# Altium schematic symbol library USB-RS485-unit.SCHLIB: 10 symbols
Pins are listed as number, name and electrical type; pins without a type are passive.

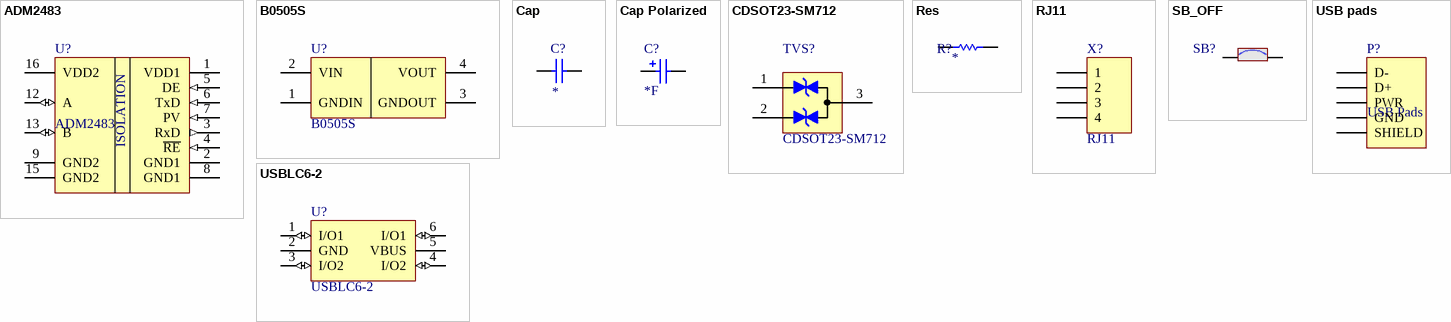
[diagram p0: symbols ADM2483 to USBLC6-2]

## ADM2483
designator U?
Half-Duplex, Isolated RS-485 Transceiver; Manufacturer_Part_Number: ADM2483BRWZ-REEL; Manufacturer: Analog Devices; Order_Code_ChipIDip: 9000375326; ComponentLink1Description: Datasheet; Part_Type: Transceiver; ComponentLink1URL: https://www.analog.com/media/en/technical-documentation/data-sheets/adm2483.pdf; Package: SOIC-W; Value: ADM2483
footprint SO-16_L (16-Pin Small Outline Integrated Circuit 1.27 mm Pitch, IPC High Density)
footprint SO-16_M (16-Pin Small Outline Integrated Circuit 1.27 mm Pitch, IPC Low Density)
footprint SO-16_N (16-Pin Small Outline Integrated Circuit 1.27 mm Pitch, IPC Medium Density)
footprint SOL-16 Wide (16-Pin Small Outline Integrated Circuit 1.27 mm Pitch, Wide Body)
pins: 1 VDD1 (power), 2 GND1 (power), 3 RxD (out), 4 ~{RE} (in), 5 DE (in), 6 TxD (in), 7 PV (in), 8 GND1 (power), 9 GND2 (power), 12 A (io), 13 B (io), 15 GND2 (power), 16 VDD2 (power)
text: ISOLATION

## B0505S
designator U?
Isolated DC-DC Converter; Manufacturer_Part_Number: B0505S-1WR2; Manufacturer: Mornsun Power; Order_Code_ChipIDip: 9000304516; ComponentLink1Description: Datasheet; Part_Type: DC-DC; ComponentLink1URL: https://static.chipdip.ru/lib/480/DOC001480972.pdf; Package: SIP; Value: B0505S
footprint B0505S - horizontal (Isolated DC-DC)
pins: 1 GNDIN (power), 2 VIN (power), 3 GNDOUT (power), 4 VOUT (power)

## Cap
designator C?
Capacitor ceramic SMT; Part_Type: Chip Capacitor; Value: *
footprint C1206 (Chip Capacitor, Body 3.2x1.6mm, IPC High Density)
footprint 0402 (Chip Capacitor, Body 1.0x0.5mm, IPC High Density)
footprint C2512 (Chip Capacitor, Body 2.54x1.27mm, IPC High Density)
footprint 1608[0603] (Chip Capacitor, Body 1.6x0.8mm, IPC High Density)
footprint C1210 (Chip Capacitor, Body 3.2x2.5mm, IPC High Density)
simulation model CAP (Semiconductor Capacitor)
signal-integrity model Cap Semi
pins: 1, 2

## Cap Polarized
designator C?, comment *F
Polarized Capacitor SMT; Part_Type: Polarized Capacitor; Value: *F
simulation model CAP (Capacitor)
signal-integrity model Cap Pol
footprint UD-6,3X5,8_NICHICON
footprint TC3216-1206 (Capacitor, SM Tantalum; Body 3.2 x 1.6 mm (LxW typ))
pins: 1, 2
1 alternate drawing of the same symbol

## CDSOT23-SM712
designator TVS?
Surface Mount TVS Diode; Manufacturer: Bourns; Order_Code_ChipIDip: 9000168919; Manufacturer_Part_Number: CDSOT23-SM712; ComponentLink1Description: Datasheet; Part_Type: TVS; ComponentLink1URL: https://www.bourns.com/pdfs/CDSOT23-SM712.pdf; Package: SOT-23; Value: CDSOT23-SM712
footprint SOT-23B_N (SOT23, 3-Leads, Body 2.9x1.3mm, Pitch 0.95mm, Lead Span 2.4mm, IPC Medium Density)
pins: 1, 2, 3

## Res
designator R?
Rectangular Thick Film Chip Resistor; Part_Type: Resistor; ComponentLink1Description: Manufacturer Link; ComponentLink1URL: http://www.panasonic.com/industrial/components/resistive_products.htm; ComponentLink2Description: Datasheet; ComponentLink2URL: http://www.panasonic.com/industrial/components/pdf/AOA0000CE8.pdf; Value: *
simulation model RESISTOR (Resistor)
signal-integrity model Res
footprint RES-0805 (Chip Resistor; Body 2 x 1.3 mm (LxW typ))
footprint RES-1206 (Chip Resistor; Body  x mm (LxW typ))
pins: 1, 2

## RJ11
designator X?
RJ-11 Connector, 4-Pin; Manufacturer_Part_Number: DS1132-S40BPX; Manufacturer: Connfly; Order_Code_ChipIDip: 9000190984; Part_Type: Connector; Value: RJ11
signal-integrity model Connector
footprint RJ11 (Connector)
pins: 1, 2, 3, 4

## SB_OFF
designator SB?  (no BOM)
Solder Bridge OFF; Part_Type: Mechanical; ComponentLink1Description: Datasheet
footprint SOLDER-BRIDGE-R0603-0R
pins: 1, 2

## USB pads
designator P?, comment USB Pads  (no BOM)
Pads for soldering USB cable; Part_Type: Mechanical; Value: USB Pads
signal-integrity model Connector
footprint USB soldering pads (Isolated DC-DC)
pins: 1 D-, 2 D+, 3 PWR (power), 4 GND (power), 5 SHIELD (power)

## USBLC6-2
designator U?
Quad Bidir ESD protection; Manufacturer: STMICROELECTRONICS; Manufacturer_Part_Number: USBLC6-2SC6; Order_Code_ChipIDip: 9000039051; ComponentLink1Description: Datasheet; Status: Released; Part_Type: ESD Protection; ComponentLink1URL: https://www.st.com/resource/en/datasheet/usblc6-2.pdf; Value: USBLC6-2
footprint SOT23-6 (SOT23, 5-Leads, Body 2.9x1.6mm, Pitch 0.95mm, Lead Span 2.8mm, IPC High Density)
pins: 1 I/O1 (io), 2 GND (power), 3 I/O2 (io), 4 I/O2 (io), 5 VBUS (power), 6 I/O1 (io)